# Altium footprint library 12V_Converter.PcbLib: 1 footprints
Each footprint in its own frame and in the unit in brackets; x right, y up, seen from the top. Pads: shape width x height; smd on the part's side, far side on the other; paste and mask are expansions set on the pad; w line width, h text height; cw(c..) or ccw(c..) is an arc to the next point about the centre after c.
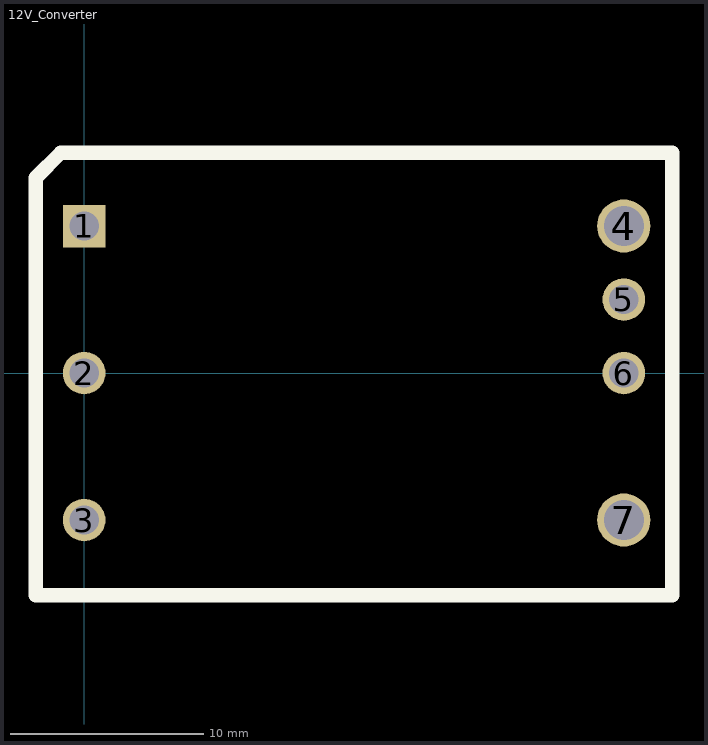
[diagram p0: the footprint, top view; thin cyan lines are the x and y axes]

## 12V_Converter [mm]
pads (7):
  rect 2.2x2.2 hole 1.52: 1(0,7.6)
  round 2.2 hole 1.52: 2(0,0) 3(0,-7.6) 5(27.9,3.8) 6(27.9,0)
  round 2.75 hole 2.07: 4(27.9,7.6) 7(27.9,-7.6)
Top Overlay:
  lines w0.75: -2.5,-11.5 30.4,-11.5 30.4,11.4 -1.2,11.4 -2.5,10.1 -2.5,-11.5
Mechanical 1:
  lines w0.254: -2.5,-11.5 -2.5,-11.5 ; 30.4,-11.5 30.4,-11.5 ; 30.4,11.4 30.4,11.4
3D body: height 3.5, standoff 2, extent -2.26,-11.81 30.64,11.09
3D body: height 0.25, standoff 0, extent 2.48,-10.5 2.48,-10.5
3D body: height 2, standoff 0, extent -0.883,-8.488 0.89,-6.712
3D body: height 2, standoff 0, extent -0.883,-0.888 0.89,0.888
3D body: height 0.25, standoff 0, extent 0.76,-13.96 0.76,-13.96
3D body: height 2, standoff 0, extent 27.017,2.912 28.79,4.688
3D body: height 2, standoff 0, extent -0.883,6.712 0.89,8.488
3D body: height 2, standoff 0, extent 26.615,-8.892 29.195,-6.307
3D body: height 2, standoff 0, extent 27.017,-0.888 28.79,0.888
3D body: height 2, standoff 0, extent 26.615,6.308 29.195,8.893
3D body: height 7, standoff 3.5, extent 2.054,5.943 6.026,8.357
3D body: height 7, standoff 3.5, extent 2.054,3.053 6.026,5.467
3D body: height 7, standoff 3.5, extent 2.054,-5.447 6.026,-3.033
3D body: height 7, standoff 3.5, extent 2.054,-2.567 6.026,-0.153
3D body: height 7, standoff 3.5, extent 2.054,0.253 6.026,2.667
3D body: height 7, standoff 3.5, extent 2.054,-8.297 6.026,-5.883
3D body: height 4.75, standoff 3.5, extent 7.32,-9.657 13.64,-4.583
3D body: height 4.75, standoff 3.5, extent 7.98,-3.677 13.15,0.097
3D body: height 4.75, standoff 3.5, extent 10.475,3.243 13.385,6.177
3D body: height 4.75, standoff 3.5, extent 10.475,7.113 13.385,10.047
3D body: height 12.1, standoff 3.5, extent 14.767,-6.713 28.093,7.873
3D body: height 2, standoff 0.5, extent 3.608,7.797 6.993,9.104
3D body: height 0.25, standoff 0, extent 8.44,18.62 8.44,18.62
3D body: height 2, standoff 0.5, extent 17.557,-5.512 18.864,-2.127
3D body: height 2, standoff 0.5, extent 19.147,-5.522 20.453,-2.137
3D body: height 2, standoff 0.5, extent 20.717,-5.512 22.023,-2.127
3D body: height 2, standoff 0.5, extent 22.317,-5.512 23.624,-2.127
3D body: height 2, standoff 0.5, extent 23.917,-5.512 25.223,-2.127
3D body: height 2, standoff 0.5, extent 20.717,-9.732 22.023,-6.347
3D body: height 2, standoff 0.5, extent 22.317,-9.732 23.624,-6.347
3D body: height 2, standoff 0.5, extent 23.917,-9.732 25.224,-6.347
3D body: height 2, standoff 0.5, extent 18.058,-10.418 18.923,-8.782
3D body: height 2, standoff 0.25, extent 8.75,2.557 13.83,5.963